# EAGLE library part FONA808 (library rac)
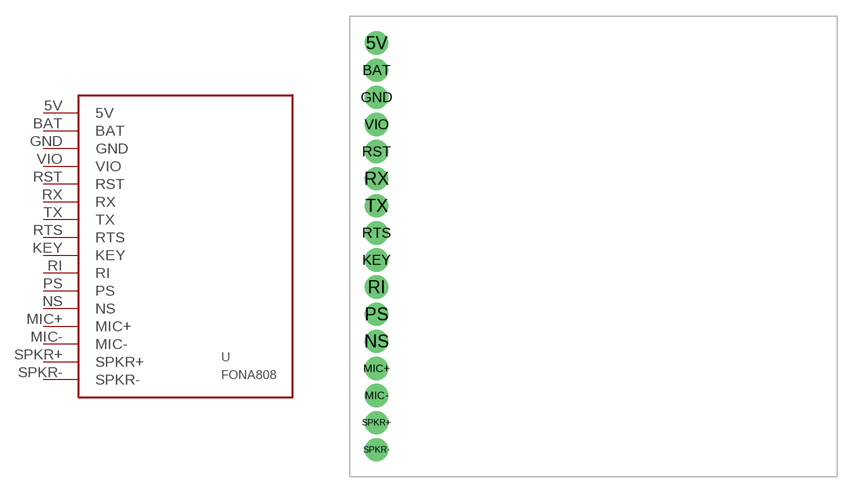
[diagram p1: symbol with the pads of FONA; footprint FONA]

Designator prefix -

## FONA808'A'  [FONA]
5V  5V
BAT  BAT
GND  GND
KEY  KEY
MIC+  MIC+
MIC-  MIC-
NS  NS
PS  PS
RI  RI
RST  RST
RTS  RTS
RX  RX
SPKR+  SPKR+
SPKR-  SPKR-
TX  TX
VIO  VIO

## Footprint FONA (pad centres in mm)
drill 1.2 pad 2.184: 5V -12.7,26.67; BAT -12.7,24.13; GND -12.7,21.59; KEY -12.7,6.35; MIC+ -12.7,-3.81; MIC- -12.7,-6.35; NS -12.7,-1.27; PS -12.7,1.27; RI -12.7,3.81; RST -12.7,16.51; RTS -12.7,8.89; RX -12.7,13.97; SPKR+ -12.7,-8.89; SPKR- -12.7,-11.43; TX -12.7,11.43; VIO -12.7,19.05